# EAGLE library part LT3757* (library Audioptics_DCDC_Controllers)
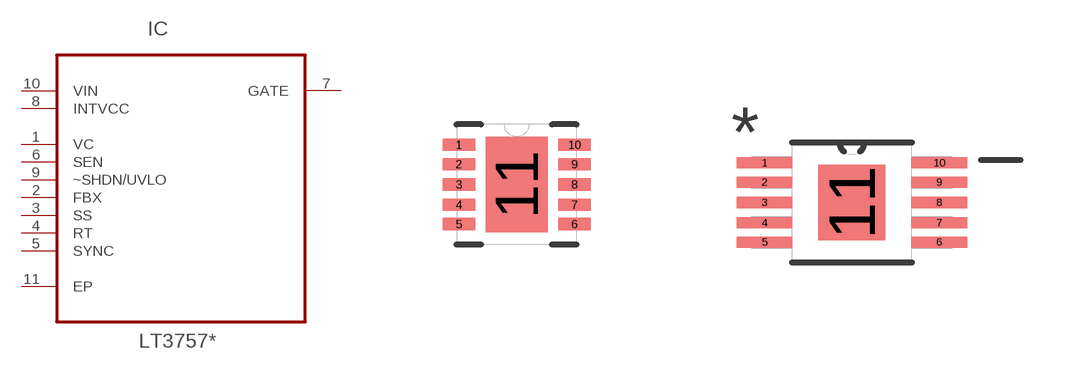
[diagram p0: symbol with the pads of DFN300X300X80-11N; footprints DFN300X300X80-11N, SOP50P490X110-11N]

Designator prefix IC

## LT3757AEDD, LT3757AIDD, LT3757EDD, LT3757IDD  [DFN300X300X80-11N]
1  VC  in
2  FBX  pas
3  SS  in
4  RT  in
5  SYNC  in
6  SEN  in
7  GATE  out
8  INTVCC  pwr
9  ~SHDN/UVLO  in
10  VIN  pwr
11  EP  pas

## LT3757AEMSE, LT3757AHMSE, LT3757AIMSE, LT3757AMPMSE, LT3757EMSE, LT3757HMSE, LT3757IMSE, LT3757MPMSE  [SOP50P490X110-11N]
Pads as for DFN300X300X80-11N

## LT3757DD_NO_THRM  [DFN300X300X80-11N_NO_THERMAL]
Pads as for DFN300X300X80-11N

## Footprint DFN300X300X80-11N (pad centres in mm)
smd 0.813 x 0.305: 1 -1.448,0.991; 2 -1.448,0.508; 3 -1.448,0; 4 -1.448,-0.508; 5 -1.448,-0.991; 6 1.448,-0.991; 7 1.448,-0.508; 8 1.448,0; 9 1.448,0.508; 10 1.448,0.991
smd 1.549 x 2.388: 11 0,0

## Footprint SOP50P490X110-11N (pad centres in mm)
smd 1.397 x 0.279: 1 -2.184,0.991; 2 -2.184,0.508; 3 -2.184,0; 4 -2.184,-0.508; 5 -2.184,-0.991; 6 2.184,-0.991; 7 2.184,-0.508; 8 2.184,0; 9 2.184,0.508; 10 2.184,0.991
smd 1.676 x 1.88: 11 0,0

## Footprint DFN300X300X80-11N_NO_THERMAL (pad centres in mm)
smd 0.813 x 0.305: 1 -1.448,0.991; 2 -1.448,0.508; 3 -1.448,0; 4 -1.448,-0.508; 5 -1.448,-0.991; 6 1.448,-0.991; 7 1.448,-0.508; 8 1.448,0; 9 1.448,0.508; 10 1.448,0.991
smd 1.549 x 2.388: 11 0,0